# Altium schematic symbol library SCH - POWER - LINEAR VREG - TI TPS767D301-EP_PWP_28.SchLib: 1 symbol
Pins are listed as number, name and electrical type; pins without a type are passive.

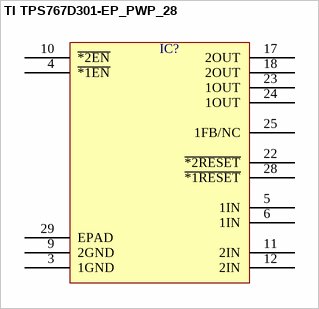
[diagram p0: symbol TI TPS767D301-EP_PWP_28]

## TI TPS767D301-EP_PWP_28
designator IC?  (value not drawn)
pins: 3 1GND, 4 ~{*1EN}, 5 1IN, 6 1IN, 9 2GND, 10 ~{*2EN}, 11 2IN, 12 2IN, 17 2OUT, 18 2OUT, 22 ~{*2RESET}, 23 1OUT, 24 1OUT, 25 1FB/NC, 28 ~{*1RESET}, 29 EPAD